# EAGLE library part LTC3108 (library umich)
Ultralow Voltage Step-Up Converter and Power Manager
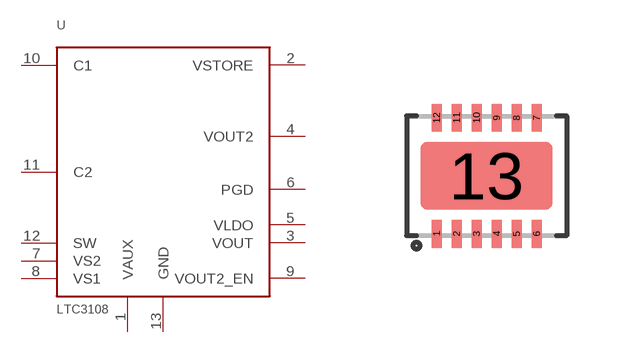
[diagram p0: symbol with the pads of LTC3108DFN; footprint LTC3108DFN]

Designator prefix U

## LTC3108"  [LTC3108DFN]
1  VAUX
2  VSTORE
3  VOUT
4  VOUT2
5  VLDO
6  PGD
7  VS2
8  VS1
9  VOUT2_EN
10  C1
11  C2
12  SW
13  GND

## Footprint LTC3108DFN (pad centres in mm)
smd 0.25 x 0.7: 1 -1.25,-1.45; 2 -0.75,-1.45; 3 -0.25,-1.45; 4 0.25,-1.45; 5 0.75,-1.45; 6 1.25,-1.45; 7 1.25,1.45; 8 0.75,1.45; 9 0.25,1.45; 10 -0.25,1.45; 11 -0.75,1.45; 12 -1.25,1.45
smd 3.3 x 1.7: 13 0,0